# EAGLE library part OLIMEX_CONNECTORS_SD_CARD (library A10-A20-OLINUXINO-MICRO-4GB_Rev_D)
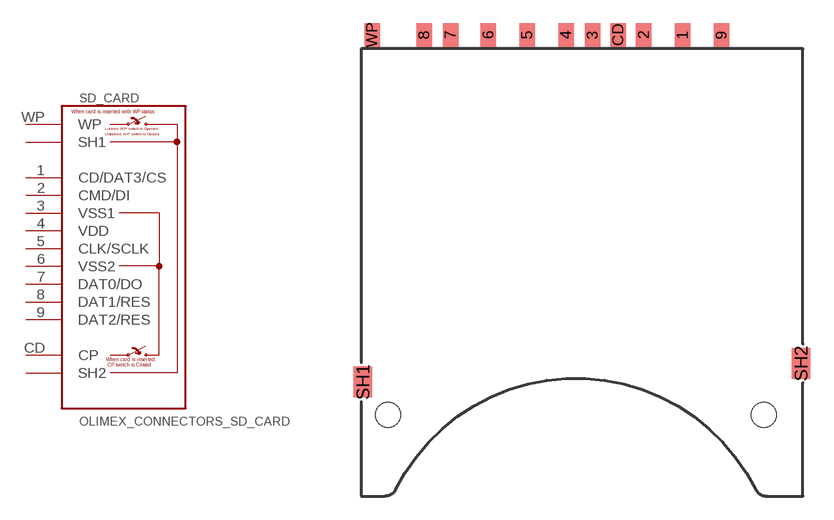
[diagram p6: symbol with the pads of OLIMEX_CONNECTORS_SD_CARD; footprint OLIMEX_CONNECTORS_SD_CARD]

Designator prefix SD_CARD

## OLIMEX_CONNECTORS_SD_CARD_PSD006A-LT2-BA0  [OLIMEX_CONNECTORS_SD_CARD]
1  CD/DAT3/CS  in
2  CMD/DI  in
3  VSS1  pwr
4  VDD  pwr
5  CLK/SCLK  in
6  VSS2  pwr
7  DAT0/DO  out
8  DAT1/RES
9  DAT2/RES
CD  CP  in
SH1  SH1  in
SH2  SH2  in
WP  WP  in

## Footprint OLIMEX_CONNECTORS_SD_CARD (pad centres in mm)
SD CARD PSD006A-LT2-BA0 2012.08.23
smd 1 x 1.5: 1 6.88,15.3; 2 4.38,15.3; 3 1.08,15.3; 4 -0.63,15.3; 5 -3.13,15.3; 6 -5.63,15.3; 7 -8.06,15.3; 8 -9.76,15.3; 9 9.38,15.3; CD 2.73,15.3; WP -13.11,15.3
smd 1.2 x 2: SH1 -13.7,-7.05; SH2 14.5,-5.85
hole 1.6 at -12.09,-9.15
hole 1.6 at 12.1,-9.15